# Altium footprint library Trans_Diodes_2N7002W-7-F_eec_IPC_A.PcbLib: 1 footprints
Each footprint in its own frame and in the unit in brackets; x right, y up, seen from the top. Pads: shape width x height; smd on the part's side, far side on the other; paste and mask are expansions set on the pad; w line width, h text height; cw(c..) or ccw(c..) is an arc to the next point about the centre after c.
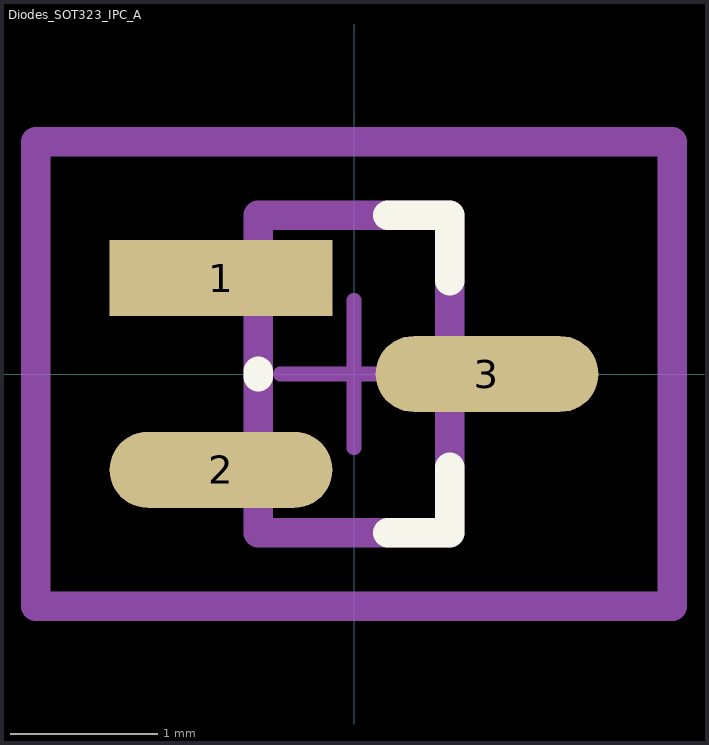
[diagram p0: the footprint, top view; thin cyan lines are the x and y axes]

## Diodes_SOT323_IPC_A [mm]
pads (3):
  rect 1.51x0.516 smd paste+0 mask+0: 1(-0.901,0.65)
  rrect100% 1.51x0.516 smd paste+0 mask+0: 2(-0.901,-0.65) 3(0.901,0)
Top Overlay:
  lines w0.2: -0.65,-0.017 -0.65,0.017 ; 0.229,-1.075 0.65,-1.075 0.65,-0.633 ; 0.229,1.075 0.65,1.075 0.65,0.633
Mechanical 10:
  lines w0.2: -2.156,-1.575 2.156,-1.575 2.156,1.575 -2.156,1.575 -2.156,-1.575
  text ".Designator" at 0,0 h1
Mechanical 12:
  lines w0.2: -0.65,-1.075 0.65,-1.075 0.65,1.075 -0.65,1.075 -0.65,-1.075
Mechanical 15:
  lines w0.1: -0.5,0 0.5,0 ; 0,-0.5 0,0.5
  lines w0.2: -2.156,-1.575 2.156,-1.575 2.156,1.575 -2.156,1.575 -2.156,-1.575
3D body "Trans_Diodes_2N7002W-7-F_eec.STEP": height 0.25, standoff 0, extent -2.156,-1.575 2.156,1.575